# Altium integrated library MyLibraries.IntLib: 17 symbols
Pins are listed as number, name and electrical type; pins without a type are passive.

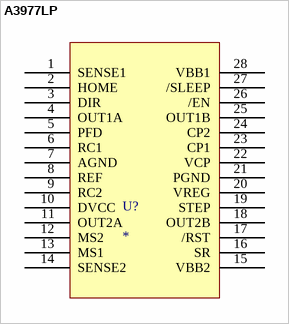
[diagram p0: symbol A3977LP]

## A3977LP
designator U?
Motor Stepper Driver with translator  35V  2.5A
footprint TSSOP28
pins: 1 SENSE1, 2 HOME, 3 DIR, 4 OUT1A, 5 PFD, 6 RC1, 7 AGND, 8 REF, 9 RC2, 10 DVCC, 11 OUT2A, 12 MS2, 13 MS1, 14 SENSE2, 15 VBB2, 16 SR, 17 /RST, 18 OUT2B, 19 STEP, 20 VREG, 21 PGND, 22 VCP, 23 CP1, 24 CP2, 25 OUT1B, 26 /EN, 27 /SLEEP, 28 VBB1


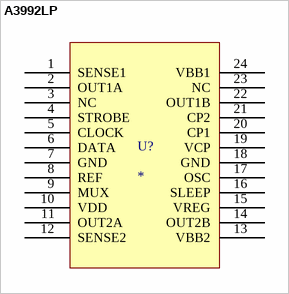
[diagram p1: symbol A3992LP]

## A3992LP
designator U?
Motor Stepper Driver Serial 50V 1.5A
footprint TSSOP24
pins: 1 SENSE1, 2 OUT1A, 3 NC, 4 STROBE, 5 CLOCK, 6 DATA, 7 GND, 8 REF, 9 MUX, 10 VDD, 11 OUT2A, 12 SENSE2, 13 VBB2, 14 OUT2B, 15 VREG, 16 SLEEP, 17 OSC, 18 GND, 19 VCP, 20 CP1, 21 CP2, 22 OUT1B, 23 NC, 24 VBB1


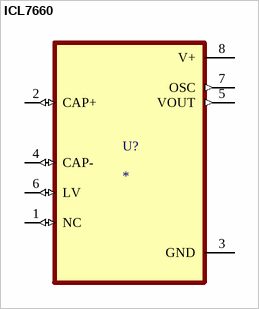
[diagram p2: symbol ICL7660]

## ICL7660
designator U?
Charge Pump Switching Regulator IC Positive or Negative Fixed -Vin, nVin, Vin/2 1 Output 20mA 8-SOIC _0.154, 3.90mm Width_; MF: Maxim Integrated; MP: ICL7660CSA; Value: *; Package: SOIC-8 Maxim Integrated; Availability: Unavailable; SnapEDA_Link: https://www.snapeda.com/parts/ICL7660CSA/Maxim%20Integrated/view-part/4614295/?ref=snap; Price: None
footprint DIP254P762X533-8
pins: 1 NC (io), 2 CAP+ (io), 3 GND (power), 4 CAP- (io), 5 VOUT (out), 6 LV (io), 7 OSC (out), 8 V+ (power)


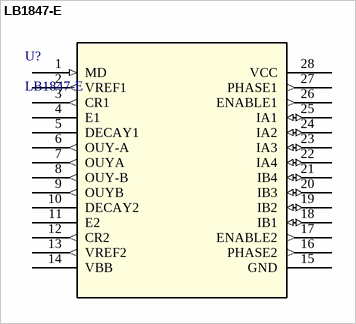
[diagram p3: symbol LB1847-E]

## LB1847-E
designator U?
Motor Stepper Driver  4bit Current Resolution; Vendor: ON Semiconductor; SourceLibrary: ONSemi_2017-12-12_1; Manufacturer_Part_Number: LB1847-E; Copyright: Copyright (C) 2016 Accelerated Designs. All rights reserved; RefDes: RefDes; Type: DEV
footprint DIP28H
pins: 1 MD (in), 2 VREF1 (out), 3 CR1 (out), 4 E1, 5 DECAY1, 6 OUY-A (out), 7 OUYA (out), 8 OUY-B (out), 9 OUYB (out), 10 DECAY2, 11 E2, 12 CR2 (out), 13 VREF2 (out), 14 VBB (power), 15 GND (power), 16 PHASE2 (out), 17 ENABLE2 (out), 18 IB1 (io), 19 IB2 (io), 20 IB3 (io), 21 IB4 (io), 22 IA4 (io), 23 IA3 (io), 24 IA2 (io), 25 IA1 (io), 26 ENABLE1 (out), 27 PHASE1 (out), 28 VCC (power)


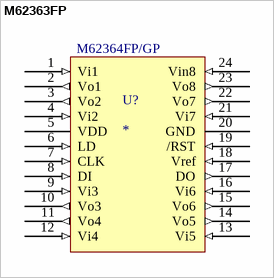
[diagram p4: symbol M62363FP]

## M62363FP
designator U?
8 x DAC 8bit Serial
footprint TSSOP24_without_Pad
pins: 1 Vi1 (in), 2 Vo1 (out), 3 Vo2 (out), 4 Vi2 (in), 5 VDD (power), 6 LD (in), 7 CLK (in), 8 DI (in), 9 Vi3 (in), 10 Vo3 (out), 11 Vo4 (out), 12 Vi4 (in), 13 Vi5 (in), 14 Vo5 (out), 15 Vo6 (out), 16 Vi6 (in), 17 DO (out), 18 Vref (in), 19 /RST (in), 20 GND (power), 21 Vi7 (in), 22 Vo7 (out), 23 Vo8 (out), 24 Vin8 (in)
text: M62364FP/GP


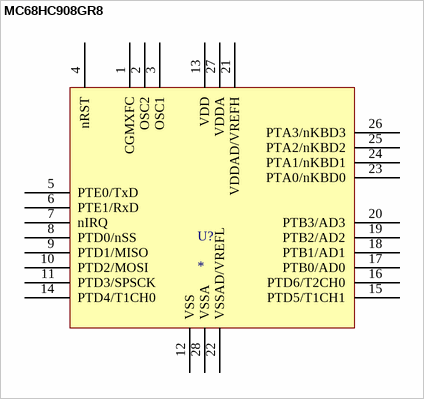
[diagram p5: symbol MC68HC908GR8]

## MC68HC908GR8
designator U?
HC08 Microcontroller IC 8-Bit 8MHz 7680Bytes (7680 x 8) FLASH 28-PDIP
footprint PDIP28
pins: 1 CGMXFC, 2 OSC2, 3 OSC1, 4 nRST, 5 PTE0/TxD, 6 PTE1/RxD, 7 nIRQ, 8 PTD0/nSS, 9 PTD1/MISO, 10 PTD2/MOSI, 11 PTD3/SPSCK, 12 VSS, 13 VDD, 14 PTD4/T1CH0, 15 PTD5/T1CH1, 16 PTD6/T2CH0, 17 PTB0/AD0, 18 PTB1/AD1, 19 PTB2/AD2, 20 PTB3/AD3, 21 VDDAD/VREFH, 22 VSSAD/VREFL, 23 PTA0/nKBD0, 24 PTA1/nKBD1, 25 PTA2/nKBD2, 26 PTA3/nKBD3, 27 VDDA, 28 VSSA


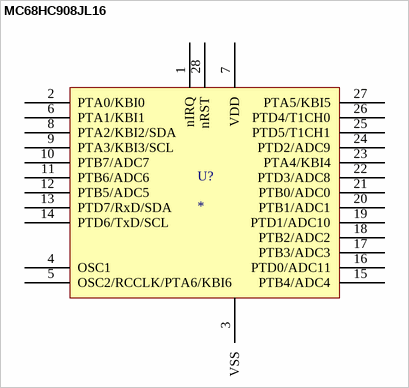
[diagram p6: symbol MC68HC908JL16]

## MC68HC908JL16
designator U?
HC08 Microcontroller IC 8-Bit 8MHz 16KB (16K x 8) FLASH 28-SOIC
footprint SOIC-28N
pins: 1 nIRQ, 2 PTA0/KBI0, 3 VSS, 4 OSC1, 5 OSC2/RCCLK/PTA6/KBI6, 6 PTA1/KBI1, 7 VDD, 8 PTA2/KBI2/SDA, 9 PTA3/KBI3/SCL, 10 PTB7/ADC7, 11 PTB6/ADC6, 12 PTB5/ADC5, 13 PTD7/RxD/SDA, 14 PTD6/TxD/SCL, 15 PTB4/ADC4, 16 PTD0/ADC11, 17 PTB3/ADC3, 18 PTB2/ADC2, 19 PTD1/ADC10, 20 PTB1/ADC1, 21 PTB0/ADC0, 22 PTD3/ADC8, 23 PTA4/KBI4, 24 PTD2/ADC9, 25 PTD5/T1CH1, 26 PTD4/T1CH0, 27 PTA5/KBI5, 28 nRST


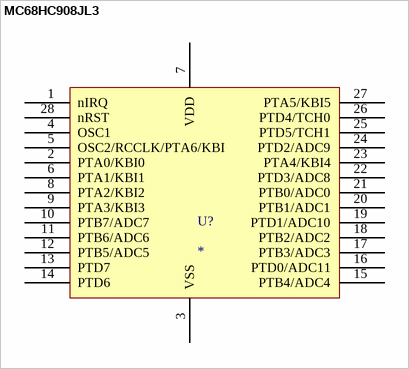
[diagram p7: symbol MC68HC908JL3]

## MC68HC908JL3
designator U?
HC08 Microcontroller IC 8-Bit 8MHz 4KB (4K x 8) FLASH 28-PDIP
footprint PDIP28
pins: 1 nIRQ, 2 PTA0/KBI0, 3 VSS, 4 OSC1, 5 OSC2/RCCLK/PTA6/KBI, 6 PTA1/KBI1, 7 VDD, 8 PTA2/KBI2, 9 PTA3/KBI3, 10 PTB7/ADC7, 11 PTB6/ADC6, 12 PTB5/ADC5, 13 PTD7, 14 PTD6, 15 PTB4/ADC4, 16 PTD0/ADC11, 17 PTB3/ADC3, 18 PTB2/ADC2, 19 PTD1/ADC10, 20 PTB1/ADC1, 21 PTB0/ADC0, 22 PTD3/ADC8, 23 PTA4/KBI4, 24 PTD2/ADC9, 25 PTD5/TCH1, 26 PTD4/TCH0, 27 PTA5/KBI5, 28 nRST


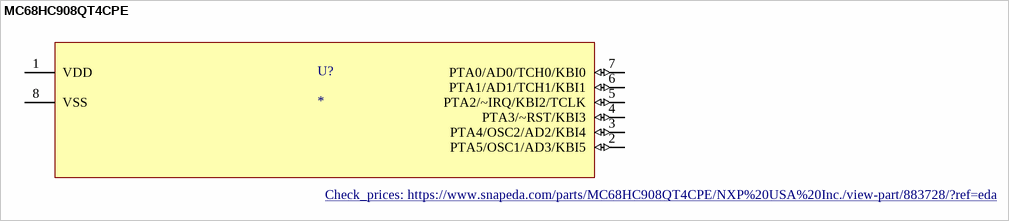
[diagram p8: symbol MC68HC908QT4CPE]

## MC68HC908QT4CPE
designator U?
HC08 Microcontroller IC 8-Bit 8MHz 4KB (4K x 8) FLASH 8-PDIP; MP: MC68HC908QT4CPE; MF: NXP USA; SnapEDA_Link: https://www.snapeda.com/parts/MC68HC908QT4CPE/NXP%20USA%20Inc./view-part/883728/?ref=snap; Price: None; Purchase-URL: https://pricing.snapeda.com/search/part/MC68HC908QT4CPE/?ref=eda; Package: DIP-8 NXP Semiconductors; Availability: Warning; Value: *; Check_prices: https://www.snapeda.com/parts/MC68HC908QT4CPE/NXP%20USA%20Inc./view-part/883728/?ref=eda
footprint DIP254P762X533-8
pins: 1 VDD (power), 2 PTA5/OSC1/AD3/KBI5 (io), 3 PTA4/OSC2/AD2/KBI4 (io), 4 PTA3/~RST/KBI3 (io), 5 PTA2/~IRQ/KBI2/TCLK (io), 6 PTA1/AD1/TCH1/KBI1 (io), 7 PTA0/AD0/TCH0/KBI0 (io), 8 VSS


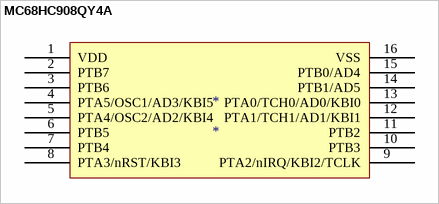
[diagram p9: symbol MC68HC908QY4A]

## MC68HC908QY4A
designator *
HC08 Microcontroller IC 8-Bit 8MHz 4KB (4K x 8) FLASH 16-PDIP
footprint PDIP16
pins: 1 VDD, 2 PTB7, 3 PTB6, 4 PTA5/OSC1/AD3/KBI5, 5 PTA4/OSC2/AD2/KBI4, 6 PTB5, 7 PTB4, 8 PTA3/nRST/KBI3, 9 PTA2/nIRQ/KBI2/TCLK, 10 PTB3, 11 PTB2, 12 PTA1/TCH1/AD1/KBI1, 13 PTA0/TCH0/AD0/KBI0, 14 PTB1/AD5, 15 PTB0/AD4, 16 VSS


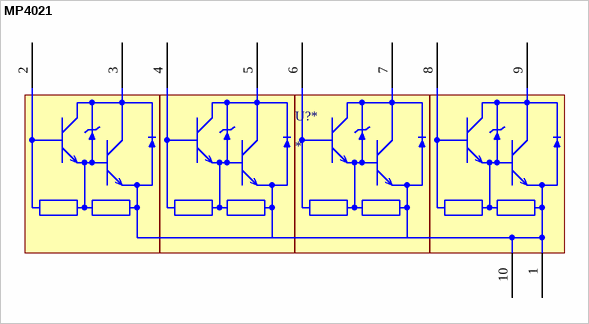
[diagram p10: symbol MP4021]

## MP4021
designator U?*
Darlington power transistor 4 in 1
footprint SIP-10
pins: 1 VEE, 2 B1, 3 VCC1, 4 B2, 5 VCC2, 6 B3, 7 VCC3, 8 B4, 9 VCC4, 10 VEE


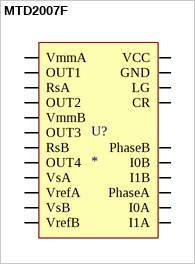
[diagram p11: symbol MTD2007F]

## MTD2007F
designator U?
Motor Stepper Driver 2bit Current Resolution
footprint HSOP28
pins: 2 VmmA, 3 OUT1, 5 RsA, 7 OUT2, 8 OUT3, 10 RsB, 12 OUT4, 13 VmmB, 16 PhaseB, 17 I0B, 18 I1B, 19 VsB, 20 VrefB, 21 CR, 22 LG, 23 VrefA, 24 VsA, 25 I1A, 26 I0A, 27 PhaseA, 28 VCC, GND


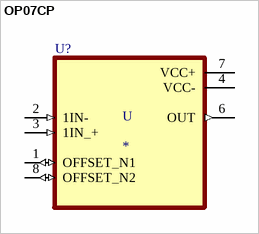
[diagram p12: symbol OP07CP]

## OP07CP
designator U
Low-Offset Voltage Operational Amplifier; MP: OP07CP; MF: Texas Instruments; Package: PDIP-8 Texas Instruments; Availability: Unavailable; Texas_Instruments-Purchase-URL: https://snapeda.com/shop?store=Texas+Instruments&id=558076; DigiKey-Purchase-URL: https://snapeda.com/shop?store=DigiKey&id=558076; Value: *; Price: None; SnapEDA_Link: https://www.snapeda.com/parts/OP07CP/Texas%20Instruments/view-part/558076/?ref=snap; Mouser-Purchase-URL: https://snapeda.com/shop?store=Mouser&id=558076
footprint DIP254P762X533-8
pins: 1 OFFSET_N1 (io), 2 1IN- (in), 3 1IN_+ (in), 4 VCC- (power), 6 OUT (out), 7 VCC+ (power), 8 OFFSET_N2 (io)
text: U?


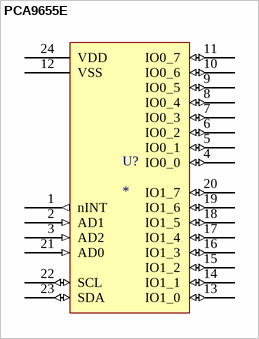
[diagram p13: symbol PCA9655E]

## PCA9655E
designator U?
Remote 16-bit I/O Expander / for I2C Bus with Interrupt
footprint TSSOP24_without_Pad
pins: 1 nINT (out), 2 AD1 (in), 3 AD2 (in), 4 IO0_0 (io), 5 IO0_1 (io), 6 IO0_2 (io), 7 IO0_3 (io), 8 IO0_4 (io), 9 IO0_5 (io), 10 IO0_6 (io), 11 IO0_7 (io), 12 VSS (power), 13 IO1_0 (io), 14 IO1_1 (io), 15 IO1_2 (io), 16 IO1_3 (io), 17 IO1_4 (io), 18 IO1_5 (io), 19 IO1_6 (io), 20 IO1_7 (io), 21 AD0 (in), 22 SCL (io), 23 SDA (io), 24 VDD (power)


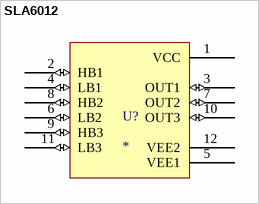
[diagram p14: symbol SLA6012]

## SLA6012
designator U?
3-Phase Motor Driver 60V 4A
footprint SIP12
pins: 1 VCC (power), 2 HB1 (io), 3 OUT1 (io), 4 LB1 (io), 5 VEE1 (power), 6 LB2 (io), 7 OUT2 (io), 8 HB2 (io), 9 HB3 (io), 10 OUT3 (io), 11 LB3 (io), 12 VEE2 (power)


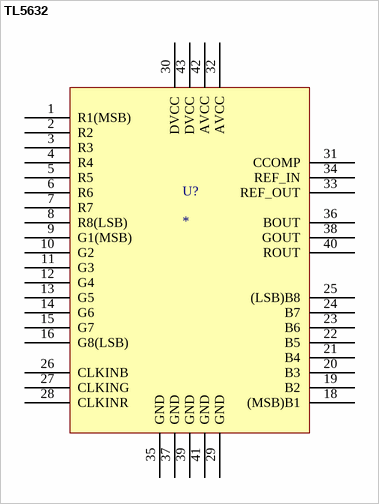
[diagram p15: symbol TL5632]

## TL5632
designator U?
3 x DAC 8bit Parallel 60Mhz
footprint TQFP-44N
pins: 1 R1(MSB) , 2 R2, 3 R3, 4 R4, 5 R5, 6 R6, 7 R7, 8 R8(LSB) , 9 G1(MSB), 10 G2, 11 G3, 12 G4, 13 G5, 14 G6, 15 G7, 16 G8(LSB), 18 (MSB)B1, 19 B2, 20 B3, 21 B4, 22 B5, 23 B6, 24 B7, 25 (LSB)B8, 26 CLKINB, 27 CLKING, 28 CLKINR, 29 GND, 30 DVCC, 31 CCOMP, 32 AVCC, 33 REF_OUT, 34 REF_IN, 35 GND, 36 BOUT, 37 GND, 38 GOUT, 39 GND, 40 ROUT, 41 GND, 42 AVCC, 43 DVCC


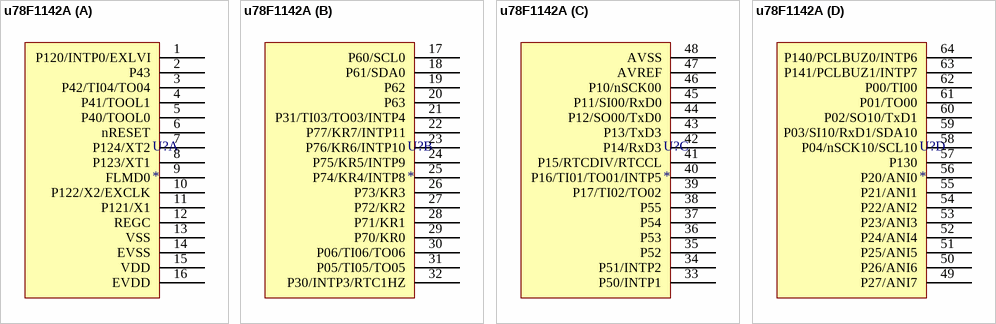
[diagram p16: symbol u78F1142A]

## u78F1142A
designator U?
16-bit Low-power Microcontroller
footprint QFP50P1200X1200X160-64N
part A pins: 1 P120/INTP0/EXLVI, 2 P43, 3 P42/TI04/TO04, 4 P41/TOOL1, 5 P40/TOOL0, 6 nRESET, 7 P124/XT2, 8 P123/XT1, 9 FLMD0, 10 P122/X2/EXCLK, 11 P121/X1, 12 REGC, 13 VSS, 14 EVSS, 15 VDD, 16 EVDD
part B pins: 17 P60/SCL0, 18 P61/SDA0, 19 P62, 20 P63, 21 P31/TI03/TO03/INTP4, 22 P77/KR7/INTP11, 23 P76/KR6/INTP10, 24 P75/KR5/INTP9, 25 P74/KR4/INTP8, 26 P73/KR3, 27 P72/KR2, 28 P71/KR1, 29 P70/KR0, 30 P06/TI06/TO06, 31 P05/TI05/TO05, 32 P30/INTP3/RTC1HZ
part C pins: 33 P50/INTP1, 34 P51/INTP2, 35 P52, 36 P53, 37 P54, 38 P55, 39 P17/TI02/TO02, 40 P16/TI01/TO01/INTP5, 41 P15/RTCDIV/RTCCL, 42 P14/RxD3, 43 P13/TxD3, 44 P12/SO00/TxD0, 45 P11/SI00/RxD0, 46 P10/nSCK00, 47 AVREF, 48 AVSS
part D pins: 49 P27/ANI7, 50 P26/ANI6, 51 P25/ANI5, 52 P24/ANI4, 53 P23/ANI3, 54 P22/ANI2, 55 P21/ANI1, 56 P20/ANI0, 57 P130, 58 P04/nSCK10/SCL10, 59 P03/SI10/RxD1/SDA10, 60 P02/SO10/TxD1, 61 P01/TO00, 62 P00/TI00, 63 P141/PCLBUZ1/INTP7, 64 P140/PCLBUZ0/INTP6